# Altium schematic symbol library ESM-111A.SchLib: 21 symbols
Pins are listed as number, name and electrical type; pins without a type are passive.

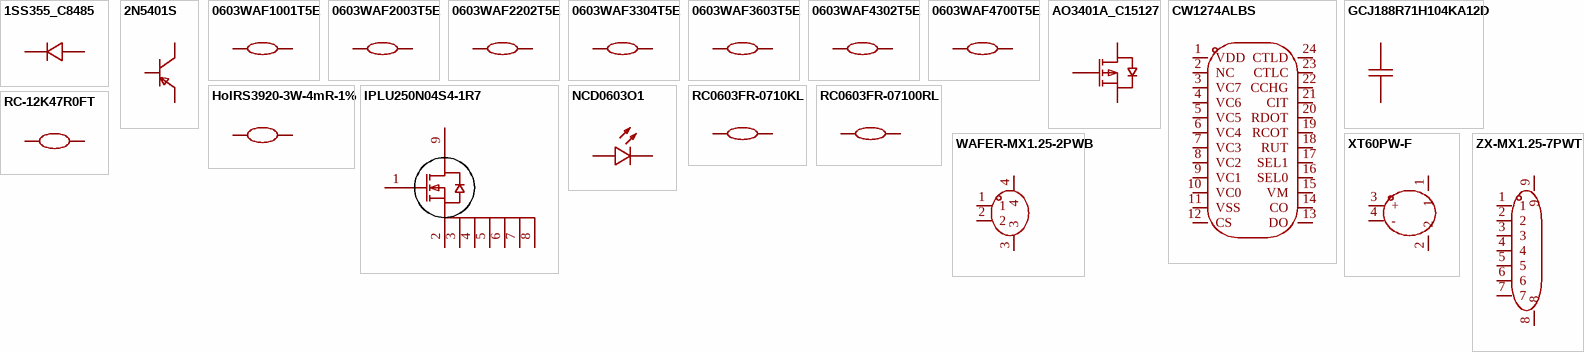
[diagram p0: symbols 1SS355_C8485 to ZX-MX1.25-7PWT]

## 1SS355_C8485
designator D??, comment 1SS355  (value not drawn)
Manufacturer: CJ(江苏长电/长晶); Symbol: 1SS355_C8485; Add into BOM: yes; Diode Configuration: Independent; Voltage - Forward(Vf@If): 1.2V@100mA; Voltage - DC Reverse(Vr): 80V; Current - Rectified: 100mA; Reverse Leakage Current (Ir): 100nA@80V; Reverse Recovery Time (trr): 4ns; Non-Repetitive Peak Forward Surge Current: 500mA; Device: 1SS355_C8485; LCSC Part Name: 1SS355; Supplier Part: C8485; Manufacturer Part: 1SS355; Supplier Footprint: SOD-323; JLCPCB Part Class: Extended Part; Datasheet: https://item.szlcsc.com/datasheet/1SS355/8979.html; Supplier: LCSC; Convert to PCB: yes; Operating Junction Temperature Range: -
footprint SOD-323_L1.8-W1.3-LS2.5-RD
pins: 1 K, 2 A

## 2N5401S
designator Q??  (value not drawn)
Manufacturer: TECH PUBLIC(台舟); Add into BOM: yes; Current - Collector(Ic): 600mA; Collector - Emitter Voltage VCEO: 160V; Pd - Power Dissipation: 300mW; DC Current Gain: 300@10mA,5V; Transition frequency(fT): 300MHz; Current - Collector Cutoff: 50nA; Vce Saturation(VCE(sat)): 500mV@50mA,6mA; Emitter-Base Voltage(Vebo): 6V; Symbol: 2N5401S; Device: 2N5401S; LCSC Part Name: PNP开关晶体管; Supplier Part: C7202978; Manufacturer Part: 2N5401S; Supplier Footprint: SOT-23; JLCPCB Part Class: Extended Part; Datasheet: https://item.szlcsc.com/datasheet/2N5401S/8170936.html; Supplier: LCSC; Convert to PCB: yes
footprint SOT-23-3_L2.9-W1.5-P2.0-LS2.5-BR
pins: 1 B, 2 E, 3 C

## 0603WAF1001T5E
designator R??, comment 1kΩ  (value not drawn)
Manufacturer: UNI-ROYAL(厚声); Symbol: 0603WAF1001T5E; Add into BOM: yes; Tolerance: ±1%; Power(Watts): 100mW; Voltage-Supply(Max): 75V; Temperature Coefficient: ±100ppm/℃; Device: 0603WAF1001T5E; LCSC Part Name: 1kΩ ±1% 100mW 厚膜电阻; Supplier Part: C21190; Manufacturer Part: 0603WAF1001T5E; Supplier Footprint: 0603; JLCPCB Part Class: Basic Part; Datasheet: https://item.szlcsc.com/datasheet/0603WAF1001T5E/21904.html; Supplier: LCSC; Convert to PCB: yes; Type: Thick Film Resistor; Value: 1kΩ; Operating Temperature: -55℃~+155℃
footprint R0603
pins: 1, 2

## 0603WAF2003T5E
designator R??, comment 200kΩ  (value not drawn)
Manufacturer: UNI-ROYAL(厚声); Symbol: 0603WAF2003T5E; Add into BOM: yes; Tolerance: ±1%; Temperature Coefficient: ±100ppm/℃; Device: 0603WAF2003T5E; LCSC Part Name: 200kΩ ±1% 100mW 厚膜电阻; Supplier Part: C25811; Manufacturer Part: 0603WAF2003T5E; Supplier Footprint: 0603; JLCPCB Part Class: Basic Part; Datasheet: https://atta.szlcsc.com/upload/public/pdf/source/20200306/C422600_1E6D84923E4A46A82E41ADD87F860B5C.pdf; Supplier: LCSC; Convert to PCB: yes; Type: Thick Film Resistors; Value: 200kΩ; Operating Temperature Range: -55℃~+155℃
footprint R0603
pins: 1, 2

## 0603WAF2202T5E
designator R??, comment 22kΩ  (value not drawn)
Manufacturer: UNI-ROYAL(厚声); Symbol: 0603WAF2202T5E; Add into BOM: yes; Tolerance: ±1%; Power(Watts): 100mW; Voltage-Supply(Max): 75V; Temperature Coefficient: ±100ppm/℃; Device: 0603WAF2202T5E; LCSC Part Name: 22kΩ ±1% 100mW 厚膜电阻; Supplier Part: C31850; Manufacturer Part: 0603WAF2202T5E; Supplier Footprint: 0603; JLCPCB Part Class: Basic Part; Datasheet: https://item.szlcsc.com/datasheet/0603WAF2202T5E/32812.html; Supplier: LCSC; Convert to PCB: yes; Type: Thick Film Resistor; Value: 22kΩ; Operating Temperature: -55℃~+155℃
footprint R0603
pins: 1, 2

## 0603WAF3304T5E
designator R??, comment 3.3MΩ  (value not drawn)
Manufacturer: UNI-ROYAL(厚声); Symbol: 0603WAF3304T5E; Add into BOM: yes; Tolerance: ±1%; Power(Watts): 100mW; Voltage-Supply(Max): 75V; Temperature Coefficient: ±100ppm/℃; Device: 0603WAF3304T5E; LCSC Part Name: 3.3MΩ ±1% 100mW 厚膜电阻; Supplier Part: C26096; Manufacturer Part: 0603WAF3304T5E; Supplier Footprint: 0603; JLCPCB Part Class: Extended Part; Datasheet: https://item.szlcsc.com/datasheet/0603WAF3304T5E/26839.html; Supplier: LCSC; Convert to PCB: yes; Type: Thick Film Resistor; Value: 3.3MΩ; Operating Temperature: -55℃~+155℃
footprint R0603
pins: 1, 2

## 0603WAF3603T5E
designator R??, comment 360kΩ  (value not drawn)
Manufacturer: UNI-ROYAL(厚声); Symbol: 0603WAF3603T5E; Add into BOM: yes; Tolerance: ±1%; Power(Watts): 100mW; Voltage-Supply(Max): 75V; Temperature Coefficient: ±100ppm/℃; Device: 0603WAF3603T5E; LCSC Part Name: 360kΩ ±1% 100mW 厚膜电阻; Supplier Part: C23146; Manufacturer Part: 0603WAF3603T5E; Supplier Footprint: 0603; JLCPCB Part Class: Extended Part; Datasheet: https://item.szlcsc.com/datasheet/0603WAF3603T5E/23873.html; Supplier: LCSC; Convert to PCB: yes; Type: Thick Film Resistor; Value: 360kΩ; Operating Temperature: -55℃~+155℃
footprint R0603
pins: 1, 2

## 0603WAF4302T5E
designator R??, comment 43kΩ  (value not drawn)
Manufacturer: UNI-ROYAL(厚声); Symbol: 0603WAF4302T5E; Add into BOM: yes; Tolerance: ±1%; Power(Watts): 100mW; Voltage-Supply(Max): 75V; Temperature Coefficient: ±100ppm/℃; Device: 0603WAF4302T5E; LCSC Part Name: 43kΩ ±1% 100mW 厚膜电阻; Supplier Part: C23172; Manufacturer Part: 0603WAF4302T5E; Supplier Footprint: 0603; JLCPCB Part Class: Extended Part; Datasheet: https://item.szlcsc.com/datasheet/0603WAF4302T5E/23899.html; Supplier: LCSC; Convert to PCB: yes; Type: Thick Film Resistor; Value: 43kΩ; Operating Temperature: -55℃~+155℃
footprint R0603
pins: 1, 2

## 0603WAF4700T5E
designator R??, comment 470Ω  (value not drawn)
Manufacturer: UNI-ROYAL(厚声); Symbol: 0603WAF4700T5E; Add into BOM: yes; Tolerance: ±1%; Power(Watts): 100mW; Voltage-Supply(Max): 75V; Temperature Coefficient: ±100ppm/℃; Device: 0603WAF4700T5E; LCSC Part Name: 470Ω ±1% 100mW 厚膜电阻; Supplier Part: C23179; Manufacturer Part: 0603WAF4700T5E; Supplier Footprint: 0603; JLCPCB Part Class: Basic Part; Datasheet: https://item.szlcsc.com/datasheet/0603WAF4700T5E/23906.html; Supplier: LCSC; Convert to PCB: yes; Type: Thick Film Resistor; Value: 470Ω; Operating Temperature: -55℃~+155℃
footprint R0603
pins: 1, 2

## AO3401A_C15127
designator Q??, comment AO3401A  (value not drawn)
Manufacturer: AOS; Device: AO3401A_C15127; Add into BOM: yes; Number: 1 P-Channel; Drain to Source Voltage: 30V; Current - Continuous Drain(Id): 4A; RDS(on): 47mΩ@10V；85mΩ@2.5V；60mΩ@4.5V; Gate Threshold Voltage (Vgs(th)): 900mV@250uA; Gate Charge(Qg): 14nC@10V; Input Capacitance(Ciss): 645pF; Reverse Transfer Capacitance (Crss@Vds): 55pF; Output Capacitance(Coss): 80pF; Symbol: AO3401A; LCSC Part Name: 1个P沟道 耐压:30V 电流:4A; Supplier Part: C15127; Manufacturer Part: AO3401A; Supplier Footprint: SOT-23; JLCPCB Part Class: Basic Part; Datasheet: https://item.szlcsc.com/datasheet/AO3401A/15801.html; Supplier: LCSC; Convert to PCB: yes; Pd - Power Dissipation: -; Operating Temperature: -; Type: -
footprint SOT-23_L2.9-W1.3-P1.90-LS2.4-BR
pins: 1 G, 2 S, 3 D

## CW1274ALBS
designator U??  (value not drawn)
Add into BOM: yes; Symbol: CW1274ALBS; Device: CW1274ALBS; LCSC Part Name: CW1274ALBS; Supplier Part: C2688819; Manufacturer Part: CW1274ALBS; Supplier Footprint: SSOP-24-150mil; JLCPCB Part Class: Extended Part; Datasheet: https://atta.szlcsc.com/upload/public/pdf/source/20210825/C2688819_42BA714DCD7637B3574D4658BF7F6BA0.pdf; Supplier: LCSC; Convert to PCB: yes
footprint SSOP-24_L8.7-W3.9-P0.64-LS6.0-BL
pins: 1 VDD, 2 NC, 3 VC7, 4 VC6, 5 VC5, 6 VC4, 7 VC3, 8 VC2, 9 VC1, 10 VC0, 11 VSS, 12 CS, 13 DO, 14 CO, 15 VM, 16 SEL0, 17 SEL1, 18 RUT, 19 RCOT, 20 RDOT, 21 CIT, 22 CCHG, 23 CTLC, 24 CTLD

## GCJ188R71H104KA12D
designator ZX-MX1.25-7PWT, comment 100nF  (value not drawn)
Manufacturer: muRata(村田); Symbol: GCJ188R71H104KA12D; Add into BOM: yes; Tolerance: ±10%; Voltage Rating: 50V; Temperature Coefficient: X7R; Device: GCJ188R71H104KA12D; LCSC Part Name: 100nF ±10% 50V; Supplier Part: C161115; Manufacturer Part: GCJ188R71H104KA12D; Supplier Footprint: 0603; JLCPCB Part Class: Extended Part; Datasheet: https://item.szlcsc.com/datasheet/GCJ188R71H104KA12D/172496.html; Supplier: LCSC; Convert to PCB: yes; Value: 100nF
footprint C0603
pins: 1, 2

## HolRS3920-3W-4mR-1%
designator R??, comment 4mΩ  (value not drawn)
Manufacturer: Milliohm(毫欧); Symbol: HOLRS3920-3W-4MR-1%; Add into BOM: yes; Tolerance: ±1%; Device: HolRS3920-3W-4mR-1%; LCSC Part Name: 4mΩ ±1% 3W; Supplier Part: C558632; Manufacturer Part: HolRS3920-3W-4mR-1%; Supplier Footprint: 3920; JLCPCB Part Class: Extended Part; Datasheet: https://atta.szlcsc.com/upload/public/pdf/source/20200522/C558625_7915B34B9186274EB7EA9862EBA9CEA8.pdf; Supplier: LCSC; Convert to PCB: yes; Value: 4mΩ
footprint R3920
pins: 1, 2

## IPLU250N04S4-1R7
designator Q??  (value not drawn)
Manufacturer: Infineon(英飞凌); Add into BOM: yes; Number: 1 N-Channel; Drain to Source Voltage: 40V; Current - Continuous Drain(Id): 250A; RDS(on): 1.7mΩ@10V; Pd - Power Dissipation: 188W; Gate Threshold Voltage (Vgs(th)): 4V@80uA; Gate Charge(Qg): 100nC@10V; Input Capacitance(Ciss): 7.9nF; Reverse Transfer Capacitance (Crss@Vds): 105pF; Type: N-Channel; Output Capacitance(Coss): 1.8nF; Symbol: IPLU250N04S4-1R7; Device: IPLU250N04S4-1R7; LCSC Part Name: OptiMOS-T2功率晶体管; Supplier Part: C537068; Manufacturer Part: IPLU250N04S4-1R7; Supplier Footprint: HSOF-8; JLCPCB Part Class: Extended Part; Datasheet: https://item.szlcsc.com/datasheet/IPLU250N04S4-1R7/557481.html; Supplier: LCSC; Convert to PCB: yes; Operating Temperature: -55℃~+175℃
footprint PG-HSOF-8_L10.5-W10.1-P1.20-LS11.9-TL
pins: 1 G, 2 S, 3 S, 4 S, 5 S, 6 S, 7 S, 8 S, 9 D

## NCD0603O1
designator LED??  (value not drawn)
Manufacturer: 国星光电; Symbol: FC-D1608HOK-600H; Add into BOM: yes; Emitted Color: Orange; Forward Voltage (VF): 1.6V~2.6V; Power Dissipation: 65mW; Forward Current: 20mA; Dominant Wavelength: 600nm~610nm; Lens Color: 无色透明透镜; Luminous Intensity: 80mcd~220mcd; Viewing Angle: 130°; Device: NCD0603O1; LCSC Part Name: NCD0603O1; Supplier Part: C84269; Manufacturer Part: NCD0603O1; Supplier Footprint: 0603; JLCPCB Part Class: Extended Part; Datasheet: https://atta.szlcsc.com/upload/public/pdf/source/20200820/C84269_76D7AD616B091E5B61CAF71BD9DDF26F.pdf; Supplier: LCSC; Convert to PCB: yes; Operating Temperature: -30℃~+85℃
footprint LED0603-RD
pins: 1 K, 2 A

## RC0603FR-0710KL
designator R??, comment 10kΩ  (value not drawn)
Manufacturer: YAGEO(国巨); Symbol: RC0603FR-0710KL; Add into BOM: yes; Tolerance: ±1%; Temperature Coefficient: ±100ppm/℃; Device: RC0603FR-0710KL; LCSC Part Name: 厚膜电阻 10kΩ ±1% 100mW; Supplier Part: C98220; Manufacturer Part: RC0603FR-0710KL; Supplier Footprint: 0603; JLCPCB Part Class: Extended Part; Datasheet: https://atta.szlcsc.com/upload/public/pdf/source/20180927/C295883_E8D83085EA81BD7DE0B2B681138C15EE.pdf; Supplier: LCSC; Convert to PCB: yes; Type: Thick Film Resistors; Value: 10kΩ; Operating Temperature Range: -55℃~+155℃
footprint R0603
pins: 1, 2

## RC0603FR-07100RL
designator R??, comment 100Ω  (value not drawn)
Manufacturer: YAGEO(国巨); Symbol: RC0603FR-07100RL; Add into BOM: yes; Tolerance: ±1%; Temperature Coefficient: ±100ppm/℃; Device: RC0603FR-07100RL; LCSC Part Name: 厚膜电阻 100Ω ±1% 100mW; Supplier Part: C105588; Manufacturer Part: RC0603FR-07100RL; Supplier Footprint: 0603; JLCPCB Part Class: Extended Part; Datasheet: https://atta.szlcsc.com/upload/public/pdf/source/20180316/70C0E2BDAE7FCC62C531A5A58D202EE1.pdf; Supplier: LCSC; Convert to PCB: yes; Type: Thick Film Resistors; Value: 100Ω; Operating Temperature Range: -55℃~+155℃
footprint R0603
pins: 1, 2

## RC-12K47R0FT
designator R??, comment 47Ω  (value not drawn)
Manufacturer: FH(风华); Symbol: RC-12K47R0FT; Add into BOM: yes; Tolerance: ±1%; Power(Watts): 1W; Voltage-Supply(Max): 200V; Temperature Coefficient: ±100ppm/℃; Device: RC-12K47R0FT; LCSC Part Name: 厚膜电阻 47Ω ±1% 1W; Supplier Part: C454019; Manufacturer Part: RC-12K47R0FT; Supplier Footprint: 2512; JLCPCB Part Class: Extended Part; Datasheet: https://item.szlcsc.com/datasheet/RC-12K47R0FT/455959.html; Supplier: LCSC; Convert to PCB: yes; Type: Thick Film Resistor; Value: 47Ω; Operating Temperature: -55℃~+155℃
footprint R2512
pins: 1, 2

## WAFER-MX1.25-2PWB
designator U??  (value not drawn)
Manufacturer: XUNPU(讯普); Add into BOM: yes; Pins Structure: 1x2P; Pitch: 1.25mm; Reference Series: PicoBlade(MX 1.25); Number of PINs Per Row: 2; Current Rating: 1A; Voltage Rating: 125V; Plastic Material: LCP; Supplementary Features: Auxiliary Solder Pin; Z-Height of the Board: 3.6mm; X-Length of Bottom Edge on Board (Spacing Line): 7.5mm; Y-Width of Bottom Edge on Board: 5.25mm; Symbol: WAFER-MX1.25-2PWB; Device: WAFER-MX1.25-2PWB; LCSC Part Name: 1x2P 间距:1.25mm 卧贴 系列:PicoBlade(MX 1.25); Supplier Part: C3029359; Manufacturer Part: WAFER-MX1.25-2PWB; Supplier Footprint: SMD,P=1.25mm,卧贴; JLCPCB Part Class: Extended Part; Datasheet: https://item.szlcsc.com/datasheet/WAFER-MX1.25-2PWB/3561371.html; Supplier: LCSC; Convert to PCB: yes; Mounting Type: Surface Mount, Right Angle; Number of Pins: 2P; Number of Rows: 1; Row Spacing: -; Contact Material: Brass; Contact Plating: Tin; Operating Temperature: -25℃~+85℃; Flame Retardant Rating: -; Color: Beige
footprint CONN-SMD_2P-P1.25_XUNPU_WAFER-MX1.25-2PWB
pins: 1, 2, 3, 4

## XT60PW-F
designator U??  (value not drawn)
Manufacturer: AMASS(艾迈斯); Symbol: XT60PW-F_C428722; Add into BOM: yes; InterfaceType: Female; Device: XT60PW-F; LCSC Part Name: AMASS(艾迈斯)插头连接器锂电池组充电接口 航模电调卧式焊板 母头 XT60PW-F; Supplier Part: C428722; Manufacturer Part: XT60PW-F; Supplier Footprint: -; JLCPCB Part Class: Extended Part; Datasheet: https://item.szlcsc.com/datasheet/XT60PW-F/423834.html; Supplier: LCSC; Convert to PCB: yes; Power: -; Output: -; Input: -; Size: -; Interface: -; Type: Horizontal plug; Colour: Yellow; MaximumCurrent: -; RatedVoltage: -; Type1: -; NumberOfUSBHoles: -; MetalMaterial: -; InsulationMaterial: -; RatedCurrent: -; RecommendedWireGauge: -; FlameRetardantGrade: -; contact resistance: -; Belt length: -; specifications: -
footprint TH_2P-XT60PW-F
pins: 1, 2, 3 +, 4 -

## ZX-MX1.25-7PWT
designator U??  (value not drawn)
Manufacturer: Megastar(兆星); Add into BOM: yes; Pins Structure: 1x7P; Pitch: 1.25mm; Reference Series: PicoBlade(MX 1.25); Number of PINs Per Row: 7; Current Rating: 1A; Voltage Rating: 125V; Plastic Material: LCP; Supplementary Features: Auxiliary Solder Pin; Z-Height of the Board: 3.6mm; X-Length of Bottom Edge on Board (Spacing Line): 13.75mm; Y-Width of Bottom Edge on Board: 5.25mm; Symbol: ZX-MX1.25-7PWT; Device: ZX-MX1.25-7PWT; LCSC Part Name: 1x7P 间距:1.25mm 卧贴 系列:PicoBlade(MX 1.25); Supplier Part: C19272380; Manufacturer Part: ZX-MX1.25-7PWT; Supplier Footprint: SMD,P=1.25mm,卧贴; JLCPCB Part Class: Extended Part; Datasheet: https://item.szlcsc.com/datasheet/ZX-MX1.25-7PWT/20550391.html; Supplier: LCSC; Convert to PCB: yes; Mounting Type: Surface Mount, Right Angle; Number of Pins: 7P; Number of Rows: 1; Row Spacing: -; Contact Material: Brass; Contact Plating: Tin; Operating Temperature: -25℃~+85℃; Flame Retardant Rating: -; Color: Beige
footprint CONN-SMD_7P-P1.25_ZX-MX1.25-7PWT (Footprint not found)
pins: 1, 2, 3, 4, 5, 6, 7, 8, 9